# EAGLE library part MCP2200 (library PP_DigitalIC)
Manufacturer Part #: MCP2200 Manufacturer: Microchip Technology Description: USB Interface IC USB-to-UART Protocol Converter w/ GPIO
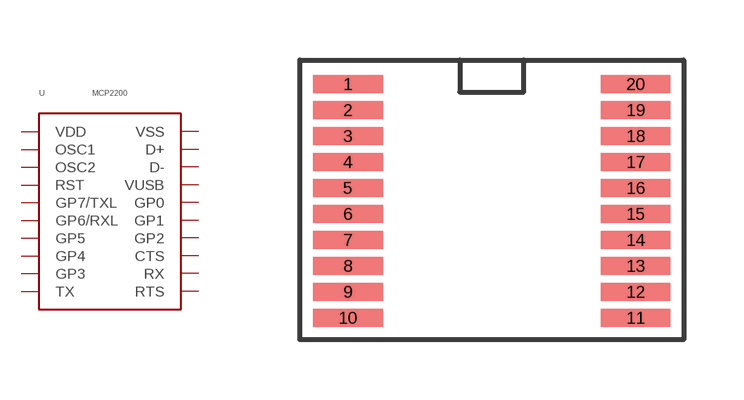
[diagram p0: symbol with the pads of TTSOP-20; footprint TTSOP-20]

Designator prefix U

## MCP2200TTSOP-20  [TTSOP-20]
1  VDD
2  OSC1
3  OSC2
4  RST
5  GP7/TXL
6  GP6/RXL
7  GP5
8  GP4
9  GP3
10  TX
11  RTS
12  RX
13  CTS
14  GP2
15  GP1
16  GP0
17  VUSB
18  D-
19  D+
20  VSS

## Footprint TTSOP-20 (pad centres in mm)
smd 1.75 x 0.45: 1 -3.6,2.6; 2 -3.6,1.95; 3 -3.6,1.3; 4 -3.6,0.65; 5 -3.6,0; 6 -3.6,-0.65; 7 -3.6,-1.3; 8 -3.6,-1.95; 9 -3.6,-2.6; 10 -3.6,-3.25; 11 3.6,-3.25; 12 3.6,-2.6; 13 3.6,-1.95; 14 3.6,-1.3; 15 3.6,-0.65; 16 3.6,0; 17 3.6,0.65; 18 3.6,1.3; 19 3.6,1.95; 20 3.6,2.6